# Altium schematic symbol library SCH - MCU - RENESAS - RENESAS R7FS5D37XXXXXXFM 64LQFP.SchLib: 1 symbol
Pins are listed as number, name and electrical type; pins without a type are passive.

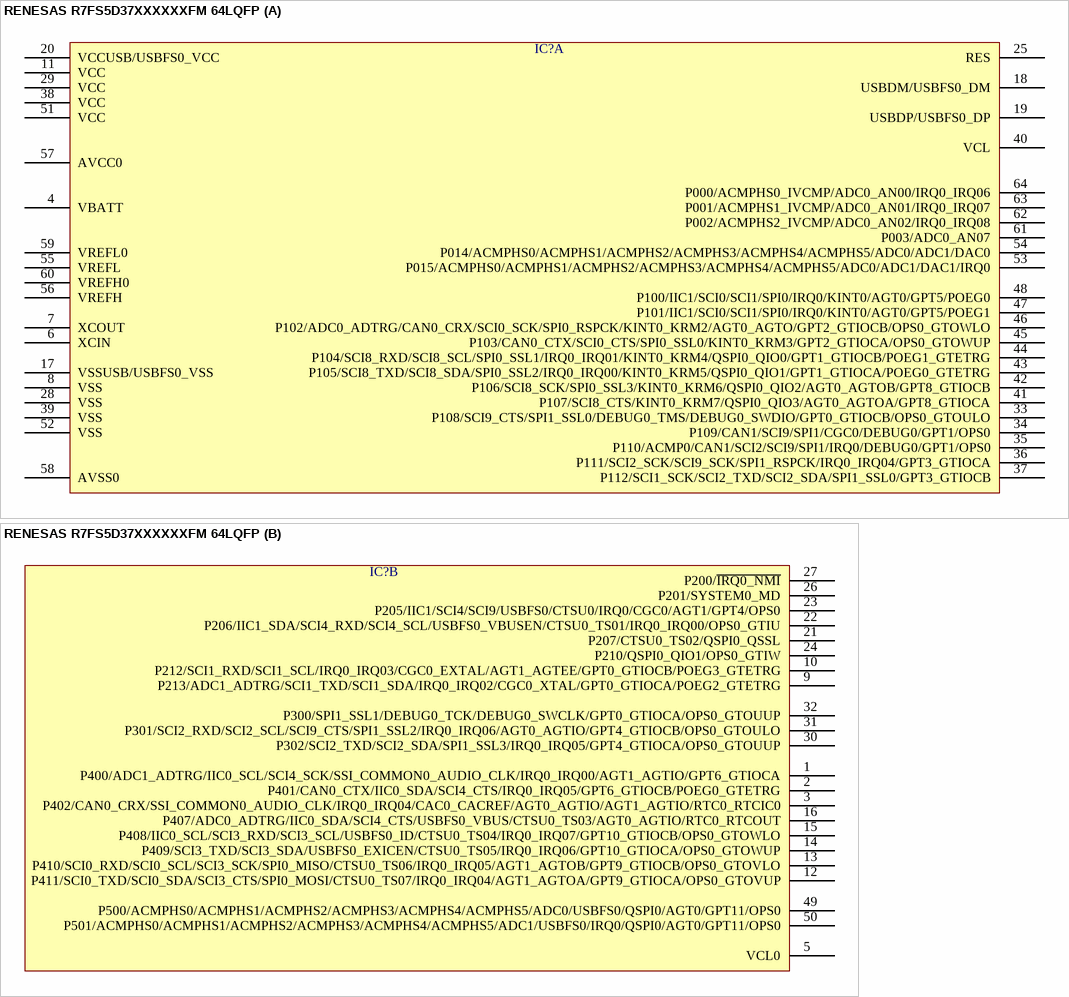
[diagram p0: symbol RENESAS R7FS5D37XXXXXXFM 64LQFP]

## RENESAS R7FS5D37XXXXXXFM 64LQFP
designator IC?  (value not drawn)
part A pins: 4 VBATT, 6 XCIN, 7 XCOUT, 8 VSS, 11 VCC, 17 VSSUSB/USBFS0_VSS, 18 USBDM/USBFS0_DM, 19 USBDP/USBFS0_DP, 20 VCCUSB/USBFS0_VCC, 25 RES, 28 VSS, 29 VCC, 33 P108/SCI9_CTS/SPI1_SSL0/DEBUG0_TMS/DEBUG0_SWDIO/GPT0_GTIOCB/OPS0_GTOULO, 34 P109/CAN1/SCI9/SPI1/CGC0/DEBUG0/GPT1/OPS0, 35 P110/ACMP0/CAN1/SCI2/SCI9/SPI1/IRQ0/DEBUG0/GPT1/OPS0, 36 P111/SCI2_SCK/SCI9_SCK/SPI1_RSPCK/IRQ0_IRQ04/GPT3_GTIOCA, 37 P112/SCI1_SCK/SCI2_TXD/SCI2_SDA/SPI1_SSL0/GPT3_GTIOCB, 38 VCC, 39 VSS, 40 VCL, 41 P107/SCI8_CTS/KINT0_KRM7/QSPI0_QIO3/AGT0_AGTOA/GPT8_GTIOCA, 42 P106/SCI8_SCK/SPI0_SSL3/KINT0_KRM6/QSPI0_QIO2/AGT0_AGTOB/GPT8_GTIOCB, 43 P105/SCI8_TXD/SCI8_SDA/SPI0_SSL2/IRQ0_IRQ00/KINT0_KRM5/QSPI0_QIO1/GPT1_GTIOCA/POEG0_GTETRG, 44 P104/SCI8_RXD/SCI8_SCL/SPI0_SSL1/IRQ0_IRQ01/KINT0_KRM4/QSPI0_QIO0/GPT1_GTIOCB/POEG1_GTETRG, 45 P103/CAN0_CTX/SCI0_CTS/SPI0_SSL0/KINT0_KRM3/GPT2_GTIOCA/OPS0_GTOWUP, 46 P102/ADC0_ADTRG/CAN0_CRX/SCI0_SCK/SPI0_RSPCK/KINT0_KRM2/AGT0_AGTO/GPT2_GTIOCB/OPS0_GTOWLO, 47 P101/IIC1/SCI0/SCI1/SPI0/IRQ0/KINT0/AGT0/GPT5/POEG1, 48 P100/IIC1/SCI0/SCI1/SPI0/IRQ0/KINT0/AGT0/GPT5/POEG0, 51 VCC, 52 VSS, 53 P015/ACMPHS0/ACMPHS1/ACMPHS2/ACMPHS3/ACMPHS4/ACMPHS5/ADC0/ADC1/DAC1/IRQ0, 54 P014/ACMPHS0/ACMPHS1/ACMPHS2/ACMPHS3/ACMPHS4/ACMPHS5/ADC0/ADC1/DAC0, 55 VREFL, 56 VREFH, 57 AVCC0, 58 AVSS0, 59 VREFL0, 60 VREFH0, 61 P003/ADC0_AN07, 62 P002/ACMPHS2_IVCMP/ADC0_AN02/IRQ0_IRQ08, 63 P001/ACMPHS1_IVCMP/ADC0_AN01/IRQ0_IRQ07, 64 P000/ACMPHS0_IVCMP/ADC0_AN00/IRQ0_IRQ06
part B pins: 1 P400/ADC1_ADTRG/IIC0_SCL/SCI4_SCK/SSI_COMMON0_AUDIO_CLK/IRQ0_IRQ00/AGT1_AGTIO/GPT6_GTIOCA, 2 P401/CAN0_CTX/IIC0_SDA/SCI4_CTS/IRQ0_IRQ05/GPT6_GTIOCB/POEG0_GTETRG, 3 P402/CAN0_CRX/SSI_COMMON0_AUDIO_CLK/IRQ0_IRQ04/CAC0_CACREF/AGT0_AGTIO/AGT1_AGTIO/RTC0_RTCIC0, 5 VCL0, 9 P213/ADC1_ADTRG/SCI1_TXD/SCI1_SDA/IRQ0_IRQ02/CGC0_XTAL/GPT0_GTIOCA/POEG2_GTETRG, 10 P212/SCI1_RXD/SCI1_SCL/IRQ0_IRQ03/CGC0_EXTAL/AGT1_AGTEE/GPT0_GTIOCB/POEG3_GTETRG, 12 P411/SCI0_TXD/SCI0_SDA/SCI3_CTS/SPI0_MOSI/CTSU0_TS07/IRQ0_IRQ04/AGT1_AGTOA/GPT9_GTIOCA/OPS0_GTOVUP, 13 P410/SCI0_RXD/SCI0_SCL/SCI3_SCK/SPI0_MISO/CTSU0_TS06/IRQ0_IRQ05/AGT1_AGTOB/GPT9_GTIOCB/OPS0_GTOVLO, 14 P409/SCI3_TXD/SCI3_SDA/USBFS0_EXICEN/CTSU0_TS05/IRQ0_IRQ06/GPT10_GTIOCA/OPS0_GTOWUP, 15 P408/IIC0_SCL/SCI3_RXD/SCI3_SCL/USBFS0_ID/CTSU0_TS04/IRQ0_IRQ07/GPT10_GTIOCB/OPS0_GTOWLO, 16 P407/ADC0_ADTRG/IIC0_SDA/SCI4_CTS/USBFS0_VBUS/CTSU0_TS03/AGT0_AGTIO/RTC0_RTCOUT, 21 P207/CTSU0_TS02/QSPI0_QSSL, 22 P206/IIC1_SDA/SCI4_RXD/SCI4_SCL/USBFS0_VBUSEN/CTSU0_TS01/IRQ0_IRQ00/OPS0_GTIU, 23 P205/IIC1/SCI4/SCI9/USBFS0/CTSU0/IRQ0/CGC0/AGT1/GPT4/OPS0, 24 P210/QSPI0_QIO1/OPS0_GTIW, 26 P201/SYSTEM0_MD, 27 P200/~{IRQ0_NMI}, 30 P302/SCI2_TXD/SCI2_SDA/SPI1_SSL3/IRQ0_IRQ05/GPT4_GTIOCA/OPS0_GTOUUP, 31 P301/SCI2_RXD/SCI2_SCL/SCI9_CTS/SPI1_SSL2/IRQ0_IRQ06/AGT0_AGTIO/GPT4_GTIOCB/OPS0_GTOULO, 32 P300/SPI1_SSL1/DEBUG0_TCK/DEBUG0_SWCLK/GPT0_GTIOCA/OPS0_GTOUUP, 49 P500/ACMPHS0/ACMPHS1/ACMPHS2/ACMPHS3/ACMPHS4/ACMPHS5/ADC0/USBFS0/QSPI0/AGT0/GPT11/OPS0, 50 P501/ACMPHS0/ACMPHS1/ACMPHS2/ACMPHS3/ACMPHS4/ACMPHS5/ADC1/USBFS0/IRQ0/QSPI0/AGT0/GPT11/OPS0